# Altium footprint library EXB2HV472JV.PcbLib: 1 footprints
Each footprint in its own frame and in the unit in brackets; x right, y up, seen from the top. Pads: shape width x height; smd on the part's side, far side on the other; paste and mask are expansions set on the pad; w line width, h text height; cw(c..) or ccw(c..) is an arc to the next point about the centre after c.
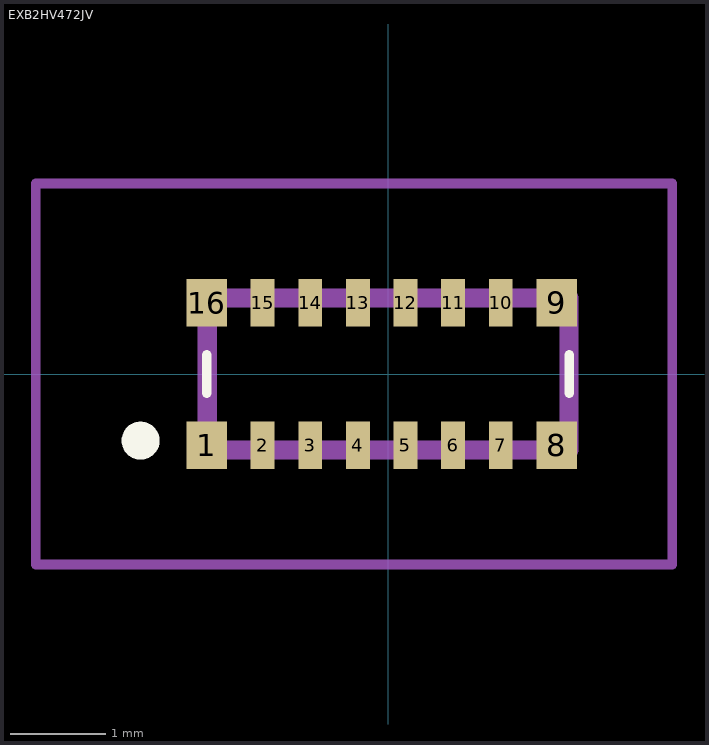
[diagram p0: the footprint, top view; thin cyan lines are the x and y axes]

## EXB2HV472JV [mm]
pads (16):
  rect 0.425x0.5 smd: 1(-1.906,-0.75) 8(1.769,-0.75) 9(1.769,0.75) 16(-1.906,0.75)
  rect 0.25x0.5 smd: 2(-1.319,-0.75) 3(-0.819,-0.75) 4(-0.319,-0.75) 5(0.181,-0.75) 6(0.681,-0.75) 7(1.181,-0.75) 10(1.181,0.75) 11(0.681,0.75) 12(0.181,0.75) 13(-0.319,0.75) 14(-0.819,0.75) 15(-1.319,0.75)
Top Overlay:
  lines w0.1: -1.906,-0.2 -1.906,0.2 ; 1.9,-0.2 1.9,0.2
  lines w0.2: -2.6,-0.8 cw(c-2.6,-0.7) -2.6,-0.6 ; -2.6,-0.8 -2.6,-0.8 ; -2.6,-0.8 ccw(c-2.6,-0.7) -2.6,-0.6 ; -2.6,-0.6 -2.6,-0.6
Mechanical 15:
  lines w0.2: -1.9,-0.8 1.9,-0.8 1.9,0.8 -1.9,0.8 -1.9,-0.8
Mechanical 20:
  lines w0.1: -3.7,-2 2.981,-2 2.981,2 -3.7,2 -3.7,-2